# EAGLE library part MD-CART_SLOT (library cartreader)
Cartridge Connector
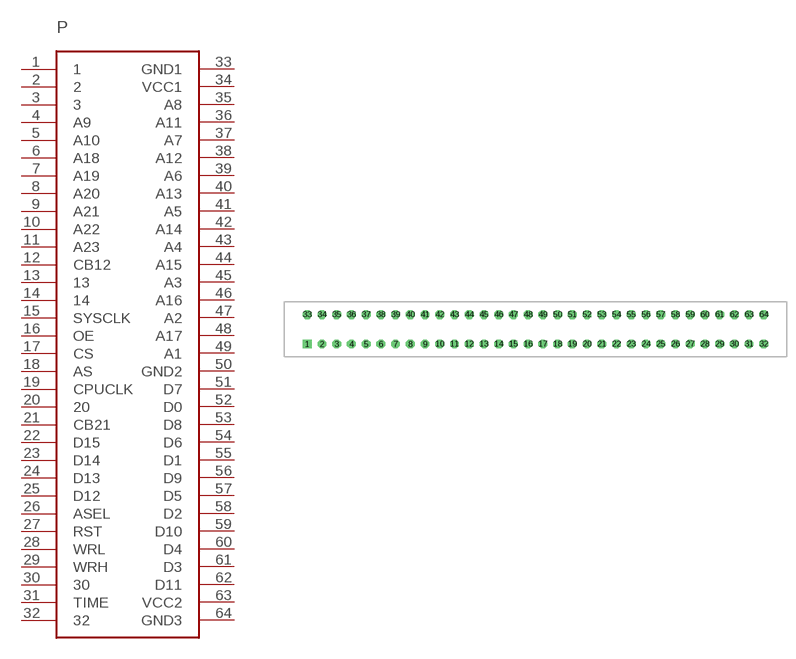
[diagram p0: symbol with the pads of MD-CART_SLOT; footprint MD-CART_SLOT]

Designator prefix P

## MD-CART_SLOT  [MD-CART_SLOT]
1  1
2  2
3  3
4  A9
5  A10
6  A18
7  A19
8  A20
9  A21
10  A22
11  A23
12  CB12
13  13
14  14
15  SYSCLK
16  OE
17  CS
18  AS
19  CPUCLK
20  20
21  CB21
22  D15
23  D14
24  D13
25  D12
26  ASEL
27  RST
28  WRL
29  WRH
30  30
31  TIME
32  32
33  GND1
34  VCC1
35  A8
36  A11
37  A7
38  A12
39  A6
40  A13
41  A5
42  A14
43  A4
44  A15
45  A3
46  A16
47  A2
48  A17
49  A1
50  GND2
51  D7
52  D0
53  D8
54  D6
55  D1
56  D9
57  D5
58  D2
59  D10
60  D4
61  D3
62  D11
63  VCC2
64  GND3

## Footprint MD-CART_SLOT (pad centres in mm)
HEADER - 0.1" vertical, latching
drill 1.016 square: 1 -39.37,-2.54
drill 1.016 octagon: 2 -36.83,-2.54; 3 -34.29,-2.54; 4 -31.75,-2.54; 5 -29.21,-2.54; 6 -26.67,-2.54; 7 -24.13,-2.54; 8 -21.59,-2.54; 9 -19.05,-2.54; 10 -16.51,-2.54; 11 -13.97,-2.54; 12 -11.43,-2.54; 13 -8.89,-2.54; 14 -6.35,-2.54; 15 -3.81,-2.54; 16 -1.27,-2.54; 17 1.27,-2.54; 18 3.81,-2.54; 19 6.35,-2.54; 20 8.89,-2.54; 21 11.43,-2.54; 22 13.97,-2.54; 23 16.51,-2.54; 24 19.05,-2.54; 25 21.59,-2.54; 26 24.13,-2.54; 27 26.67,-2.54; 28 29.21,-2.54; 29 31.75,-2.54; 30 34.29,-2.54; 31 36.83,-2.54; 32 39.37,-2.54; 33 -39.37,2.54; 34 -36.83,2.54; 35 -34.29,2.54; 36 -31.75,2.54; 37 -29.21,2.54; 38 -26.67,2.54; 39 -24.13,2.54; 40 -21.59,2.54; 41 -19.05,2.54; 42 -16.51,2.54; 43 -13.97,2.54; 44 -11.43,2.54; 45 -8.89,2.54; 46 -6.35,2.54; 47 -3.81,2.54; 48 -1.27,2.54; 49 1.27,2.54; 50 3.81,2.54; 51 6.35,2.54; 52 8.89,2.54; 53 11.43,2.54; 54 13.97,2.54; 55 16.51,2.54; 56 19.05,2.54; 57 21.59,2.54; 58 24.13,2.54; 59 26.67,2.54; 60 29.21,2.54; 61 31.75,2.54; 62 34.29,2.54; 63 36.83,2.54; 64 39.37,2.54